# EAGLE library part BQ24075T (library obimon)
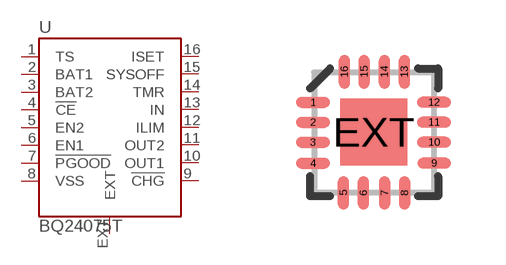
[diagram p0: symbol with the pads of QFN16_3MM; footprint QFN16_3MM]

Designator prefix -

## BQ24075T  [QFN16_3MM]
1  TS
2  BAT1
3  BAT2
4  !CE
5  EN2
6  EN1
7  !PGOOD
8  VSS
9  !CHG
10  OUT1
11  OUT2
12  ILIM
13  IN
14  TMR
15  SYSOFF
16  ISET
EXT  EXT

## Footprint QFN16_3MM (pad centres in mm)
smd 0.85 x 0.28: 1 -1.524,0.75; 2 -1.524,0.253; 3 -1.529,-0.25; 4 -1.527,-0.774; 9 1.503,-0.77; 10 1.498,-0.245; 11 1.498,0.255; 12 1.495,0.755
smd 0.28 x 0.85: 5 -0.765,-1.513; 6 -0.265,-1.513; 7 0.263,-1.513; 8 0.763,-1.513; 13 0.758,1.518; 14 0.258,1.518; 15 -0.247,1.518; 16 -0.742,1.518
smd 1.68 x 1.68: EXT -0.009,0.008